# EAGLE library part 08B0-1X1T-03-F (library Nick Firmani)
CONN MAGJACK 1PORT 100 BASE-T
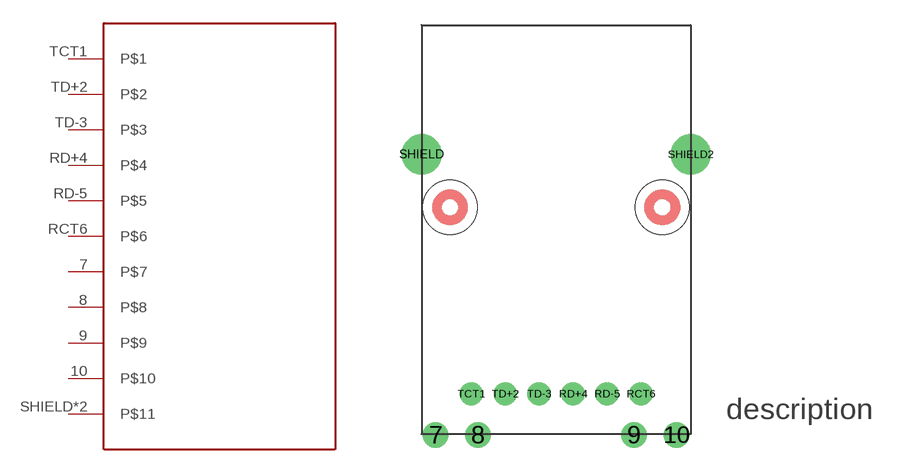
[diagram p1: symbol with the pads of MAGJACK-80; footprint MAGJACK-80]

Designator prefix -

## 08B0-1X1T-03-F  [MAGJACK-80]
7  P$7
8  P$8
9  P$9
10  P$10
RCT6  P$6
RD+4  P$4
RD-5  P$5
SHIELD  P$11
SHIELD2  P$11
TCT1  P$1
TD+2  P$2
TD-3  P$3

## Footprint MAGJACK-80 (pad centres in mm)
drill 1.016: 7 -0.864,-13.64; 8 1.676,-13.64; 9 11.024,-13.64; 10 13.564,-13.64
drill 0.889: RCT6 11.43,-11.176; RD+4 7.366,-11.176; RD-5 9.398,-11.176; TCT1 1.27,-11.176; TD+2 3.302,-11.176; TD-3 5.334,-11.176
drill 1.6: SHIELD -1.702,3.175; SHIELD2 14.402,3.175
hole 3.251 at 0,0
hole 3.251 at 12.7,0